# Altium footprint library 732511150.PcbLib: 1 footprints
Each footprint in its own frame and in the unit in brackets; x right, y up, seen from the top. Pads: shape width x height; smd on the part's side, far side on the other; paste and mask are expansions set on the pad; w line width, h text height; cw(c..) or ccw(c..) is an arc to the next point about the centre after c.
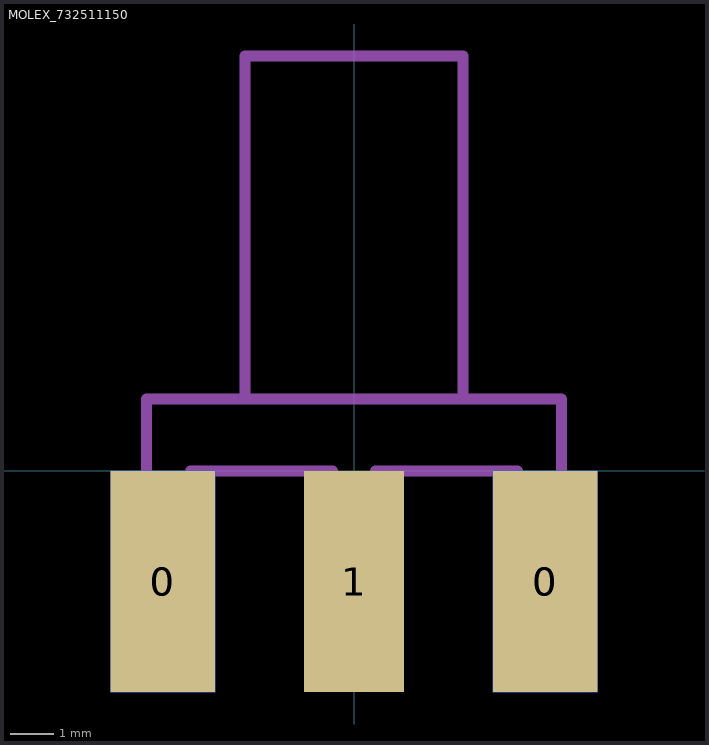
[diagram p0: the footprint, top view; thin cyan lines are the x and y axes]

## MOLEX_732511150 [mm] "SMA EDGE"
pads (5):
  rect 2.4x5.08 smd: 0(-4.39,-2.54) 0(4.39,-2.54)
  rect 2.4x5.08 smd far side: 0(-4.39,-2.54) 0(4.39,-2.54)
  rect 2.29x5.08 smd: 1(0,-2.54)
Top 3D Body:
  lines w0.254: -2.5,1.68 -2.5,9.53 0,9.53 2.5,9.53 2.5,1.68 ; -4.765,-4.75 -3.75,-4.75 -3.75,0 -0.5,0 -0.5,-4.5 0.5,-4.5 0.5,0 3.75,0 3.75,-4.75 4.765,-4.75 4.765,1.65 -4.765,1.65 -4.765,-4.75
3D body "732511150.stp": height 4.46, standoff -3.46, extent -4.763,-4.75 4.763,9.525